# Altium footprint library TC33X-2-103E.PcbLib: 1 footprints
Each footprint in its own frame and in the unit in brackets; x right, y up, seen from the top. Pads: shape width x height; smd on the part's side, far side on the other; paste and mask are expansions set on the pad; w line width, h text height; cw(c..) or ccw(c..) is an arc to the next point about the centre after c.
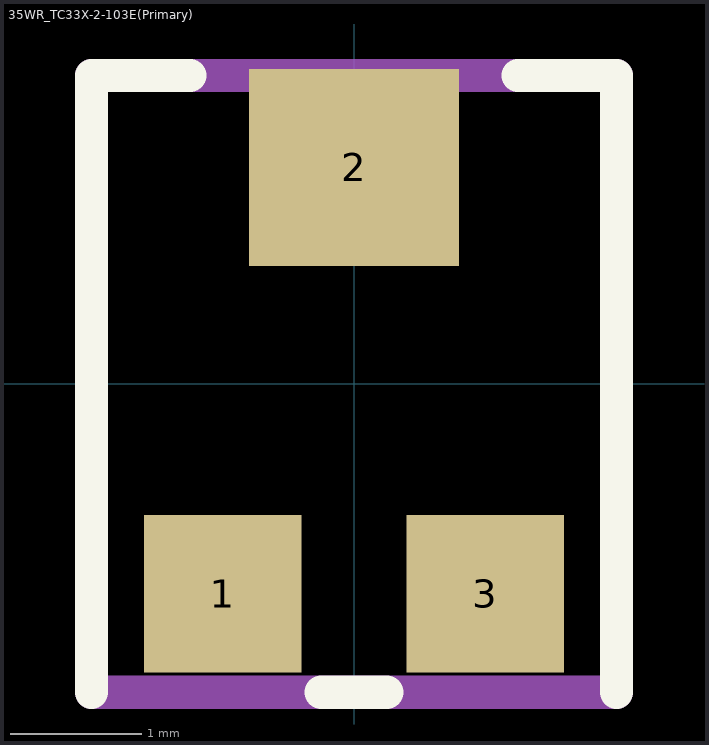
[diagram p0: the footprint, top view; thin cyan lines are the x and y axes]

## 35WR_TC33X-2-103E(Primary) [mm]
pads (3):
  rect 1.2x1.2 smd paste-25.4 mask-25.4: 1(-1,-1.6) 3(1,-1.6)
  rect 1.6x1.5 smd paste-25.4 mask-25.4: 2(0,1.65)
Top Overlay:
  lines w0.254: -2,-2.35 -2,2.35 -1.25,2.35 ; -0.25,-2.35 0.25,-2.35 ; 1.25,2.35 2,2.35 2,-2.35
Top Paste:
  region: -0.8,0.9 0.8,0.9 0.8,2.4 -0.8,2.4
  region: 0.4,-2.2 1.6,-2.2 1.6,-1 0.4,-1
  region: -1.6,-2.2 -0.4,-2.2 -0.4,-1 -1.6,-1
Top Solder:
  region: -0.9,0.8 0.9,0.8 0.9,2.5 -0.9,2.5
  region: 0.3,-2.3 1.7,-2.3 1.7,-0.9 0.3,-0.9
  region: -1.7,-2.3 -0.3,-2.3 -0.3,-0.9 -1.7,-0.9
Mechanical 1:
  lines w0.254: -2,-2.35 2,-2.35 2,2.35 -2,2.35 -2,-2.35